# Altium schematic symbol library RS_IC_power.SchLib: 2 symbols
Pins are listed as number, name and electrical type; pins without a type are passive.

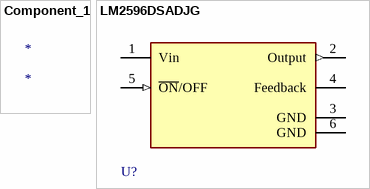
[diagram p0: symbols Component_1 to LM2596DSADJG]

## Component_1
designator *

## LM2596DSADJG
designator U?  (value not drawn)
footprint TO-263-5
pins: 1 Vin (power), 2 Output (out), 3 GND (power), 4 Feedback, 5 ~{ON}/OFF (in), 6 GND (power)